# Altium schematic symbol library 220ADC04.SchLib: 1 symbol
Pins are listed as number, name and electrical type; pins without a type are passive.

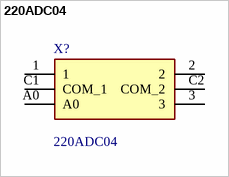
[diagram p0: symbol 220ADC04]

## 220ADC04
designator X?
Coded Rotary Switches 4 position thru hole Knurled; Manufacturer_Name: CTS; Geometry.Height: 6.95mm; Mouser Part Number: 774-220ADC04; Mouser Price/Stock: https://www.mouser.co.uk/ProductDetail/CTS-Electronic-Components/220ADC04?qs=DRP5hA1CHArLHqDAv1i%2FqA%3D%3D; Manufacturer_Part_Number: 220ADC04; Datasheet Link: https://componentsearchengine.com/Datasheets/1/220ADC04.pdf
footprint 220ADC04
pins: 1, 2, 3, A0, C1 COM_1, C2 COM_2